# EAGLE library part LTC6252IS6TRPBF (library lib_test)
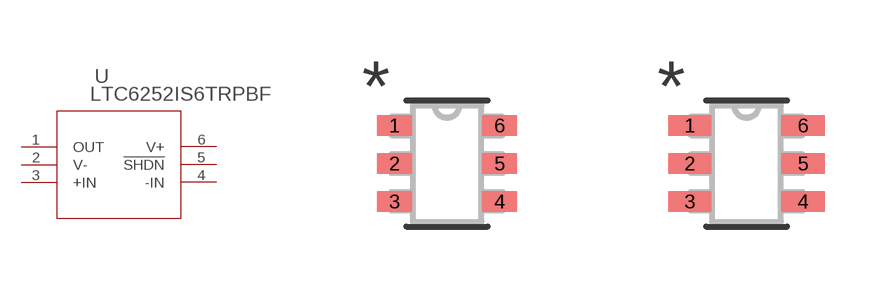
[diagram p3: symbol with the pads of TSOT-23_S6_LIT; footprints TSOT-23_S6_LIT, TSOT-23_S6_LIT-M]

Designator prefix U

## LTC6252IS6TRPBF (BUILT_BY: EMA_UL_Team; MANUFACTURER_PART_NUMBER: LTC6252IS6#TRPBF; SOURCELIBRARY: LinearTech_2016-05-13_4; VENDOR: Linear Technology)  [TSOT-23_S6_LIT]
1  OUT  out
2  V-  pwr
3  +IN  in
4  -IN  in
5  !SHDN  pas
6  V+  pwr

## LTC6252IS6TRPBFTSOT-23_S6_LIT-M (BUILT_BY: EMA_UL_Team; MANUFACTURER_PART_NUMBER: LTC6252IS6#TRPBF; SOURCELIBRARY: LinearTech_2016-05-13_4; VENDOR: Linear Technology)  [TSOT-23_S6_LIT-M]
Pads as for TSOT-23_S6_LIT

## LTC6252IS6TRPBFTSOT-23_S6_LIT-L (BUILT_BY: EMA_UL_Team; MANUFACTURER_PART_NUMBER: LTC6252IS6#TRPBF; SOURCELIBRARY: LinearTech_2016-05-13_4; VENDOR: Linear Technology)  [TSOT-23_S6_LIT-L]
Pads as for TSOT-23_S6_LIT

## Footprint TSOT-23_S6_LIT (pad centres in mm)
smd 0.876 x 0.508: 1 -1.314,0.95; 2 -1.314,0; 3 -1.314,-0.95; 4 1.314,-0.95; 5 1.314,0; 6 1.314,0.95

## Footprint TSOT-23_S6_LIT-M (pad centres in mm)
smd 1.079 x 0.508: 1 -1.416,0.95; 2 -1.416,0; 3 -1.416,-0.95; 4 1.416,-0.95; 5 1.416,0; 6 1.416,0.95

## Footprint TSOT-23_S6_LIT-L (pad centres in mm)
smd 0.673 x 0.457: 1 -1.213,0.95; 2 -1.213,0; 3 -1.213,-0.95; 4 1.213,-0.95; 5 1.213,0; 6 1.213,0.95